# Altium integrated library Recom-785.0 5V-0.5A.IntLib: 1 symbol
Pins are listed as number, name and electrical type; pins without a type are passive.

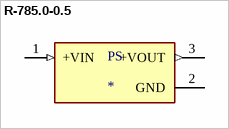
[diagram p0: symbol R-785.0-0.5]

## R-785.0-0.5
designator PS
0.5A DC/DC-Converter 'INNOLINE' SIP3 reg; MF: Recom Power; MP: R-785.0-0.5; Value: *; Availability: Unavailable; Price: None; Package: SIP-3 Recom Power; SnapEDA_Link: https://www.snapeda.com/parts/R-785.0-0.5/Recom%20Power/view-part/331228/?ref=snap
footprint CONV_R-785.0-0.5
pins: 1 +VIN (in), 2 GND (power), 3 +VOUT (out)